# Altium footprint library RL78 DEMOPCB_V1.02.PcbLib: 34 footprints (part 2 of 3)
Each footprint in its own frame and in the unit in brackets; x right, y up, seen from the top. Pads: shape width x height; smd on the part's side, far side on the other; paste and mask are expansions set on the pad; w line width, h text height; cw(c..) or ccw(c..) is an arc to the next point about the centre after c.
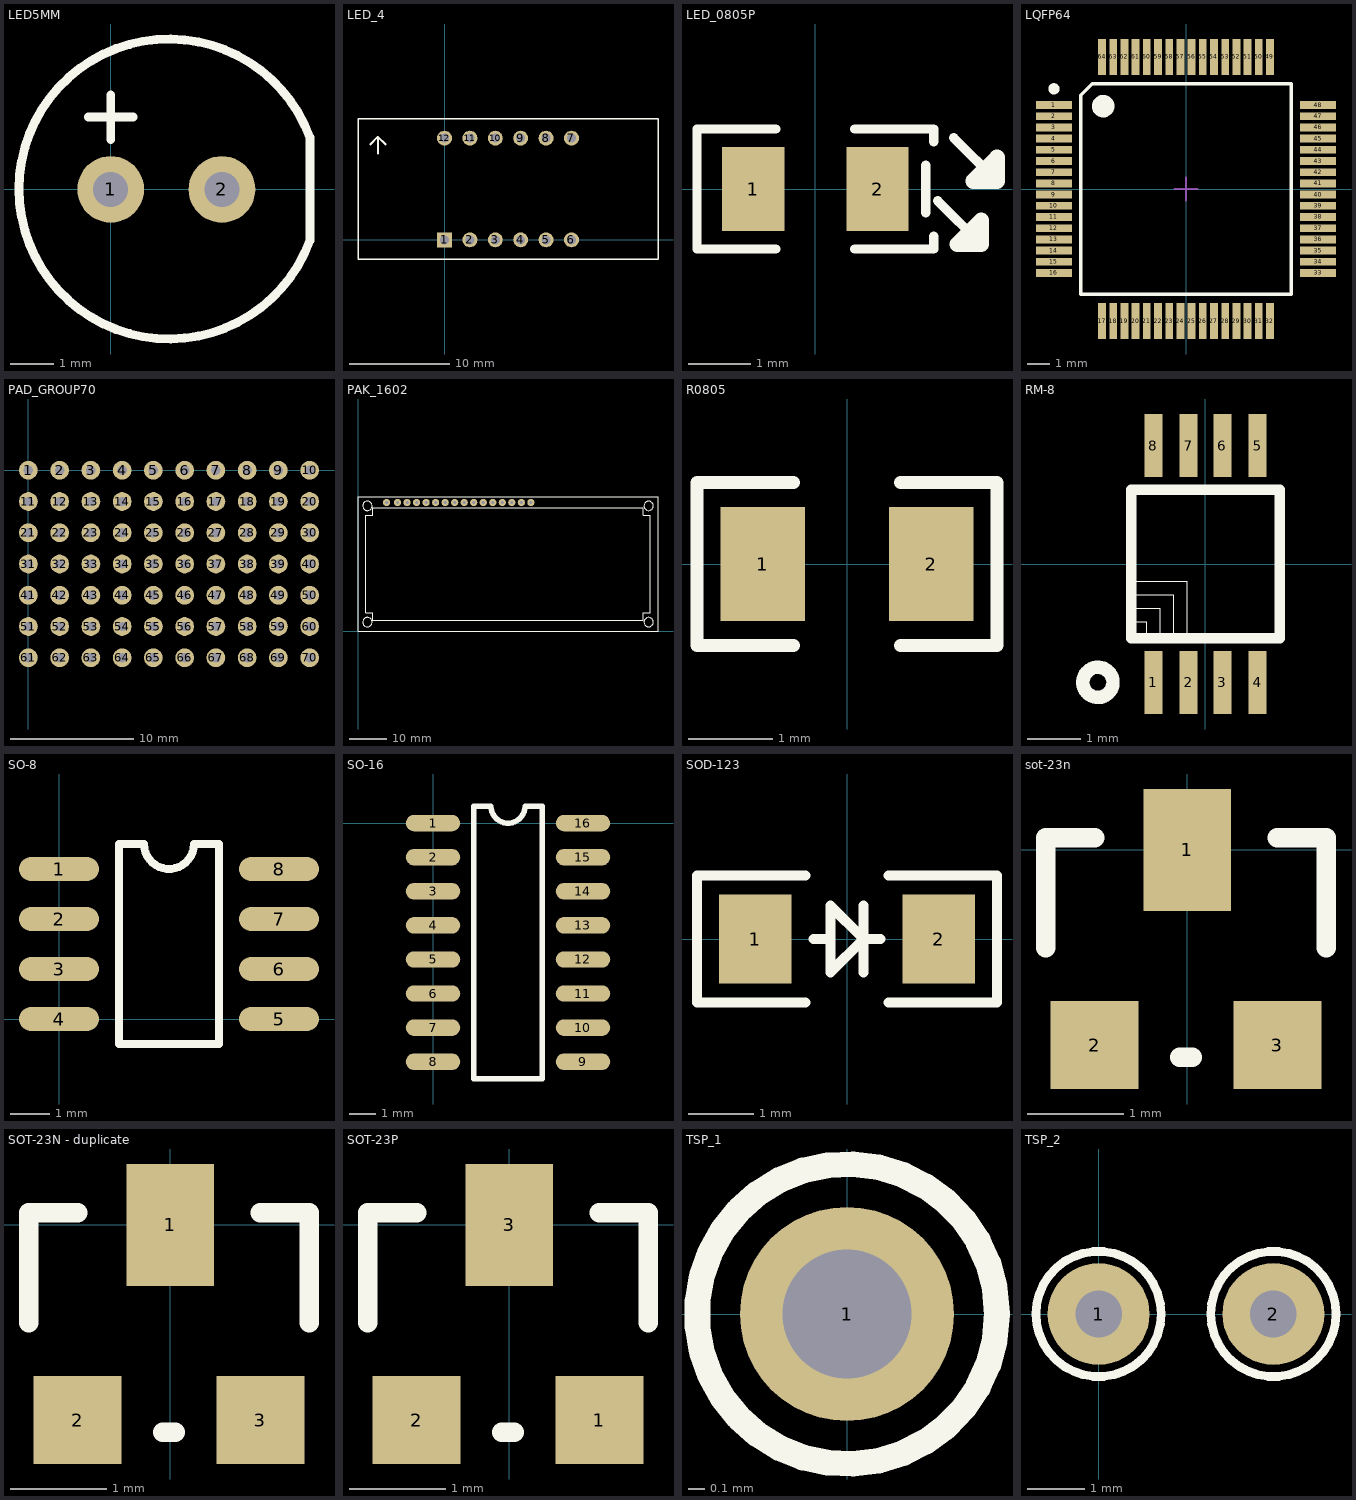
[diagram p1: the footprints below, top view; thin cyan lines are the x and y axes]

## LED5MM [mil]
pads (2):
  round 60 hole 31.5: 1(0,0) 2(100,0)
Top Overlay:
  lines w8: -20,65 20,65 ; 0,45 0,85 ; 179.16,-45.77 cw(c52.41,0.36) 179.16,46.5 179.16,-45.77

## LED_4 [mm]
pads (12):
  rect 1.5x1.5 hole 0.9: 1(0,0)
  round 1.5 hole 0.9: 2(2.54,0) 3(5.08,0) 4(7.62,0) 5(10.16,0) 6(12.7,0) 7(12.7,10.16) 8(10.16,10.16) 9(7.62,10.16) 10(5.08,10.16) 11(2.54,10.16) 12(0,10.16)
Top Overlay:
  lines w0.127: -8.65,-1.92 -8.65,12.08 21.35,12.08 21.35,-1.92 -8.65,-1.92
  lines w0.203: -7.42,9.527 -6.658,10.289 ; -6.658,8.638 -6.658,10.289 ; -5.896,9.527 -6.658,10.289

## LED_0805P [mm] "Chip Resistor; Body 2.0 x 1.3 mm (LxW typ)"
height 0.65
pads (2):
  rect 1x1.35 smd: 1(-1,0) 2(1,0)
Top Overlay:
  lines w0.152: -1.905,-0.965 -0.635,-0.965 ; -1.905,-0.94 -1.905,0.965 -0.635,0.965 ; 0.635,-0.965 1.905,-0.965 1.905,-0.762 ; 0.635,0.965 1.905,0.965 1.905,0.762 ; 1.778,-0.381 1.778,0.381 ; 1.968,-0.191 2.667,-0.889 ; 2.222,0.826 2.921,0.127
  lines w0.254: 2.286,-0.889 2.667,-0.508 2.667,-0.889 2.286,-0.889 ; 2.54,0.127 2.921,0.127 2.921,0.508 2.54,0.127

## LQFP64 [mm] "SQFP, 64-Leads, Body 12.6x12.6mm (max), Pitch 0.50mm, IPC Medium Density"
height 2.45
pads (64):
  rect 1.6x0.35 smd: 1(-5.9,3.75) 2(-5.9,3.25) 3(-5.9,2.75) 4(-5.9,2.25) 5(-5.9,1.75) 6(-5.9,1.25) 7(-5.9,0.75) 8(-5.9,0.25) 9(-5.9,-0.25) 10(-5.9,-0.75) 11(-5.9,-1.25) 12(-5.9,-1.75) 13(-5.9,-2.25) 14(-5.9,-2.75) 15(-5.9,-3.25) 16(-5.9,-3.75) 33(5.9,-3.75) 34(5.9,-3.25) 35(5.9,-2.75) 36(5.9,-2.25) 37(5.9,-1.75) 38(5.9,-1.25) 39(5.9,-0.75) 40(5.9,-0.25) 41(5.9,0.25) 42(5.9,0.75) 43(5.9,1.25) 44(5.9,1.75) 45(5.9,2.25) 46(5.9,2.75) 47(5.9,3.25) 48(5.9,3.75)
  rect 0.35x1.6 smd: 17(-3.75,-5.9) 18(-3.25,-5.9) 19(-2.75,-5.9) 20(-2.25,-5.9) 21(-1.75,-5.9) 22(-1.25,-5.9) 23(-0.75,-5.9) 24(-0.25,-5.9) 25(0.25,-5.9) 26(0.75,-5.9) 27(1.25,-5.9) 28(1.75,-5.9) 29(2.25,-5.9) 30(2.75,-5.9) 31(3.25,-5.9) 32(3.75,-5.9) 49(3.75,5.9) 50(3.25,5.9) 51(2.75,5.9) 52(2.25,5.9) 53(1.75,5.9) 54(1.25,5.9) 55(0.75,5.9) 56(0.25,5.9) 57(-0.25,5.9) 58(-0.75,5.9) 59(-1.25,5.9) 60(-1.75,5.9) 61(-2.25,5.9) 62(-2.75,5.9) 63(-3.25,5.9) 64(-3.75,5.9)
Top Overlay:
  circle w0.25: c-5.9,4.475 r0.125
  circle w0.6: c-3.7,3.7 r0.2
  lines w0.15: -4.7,-4.7 -4.7,4.19 -4.19,4.7 4.7,4.7 4.7,-4.7 -4.7,-4.7
Mechanical 15:
  lines w0.1: -0.5,0 0.5,0 ; 0,-0.5 0,0.5

## PAD_GROUP70 [mil]
pads (70):
  round 60 hole 30: 1(0,0) 2(100,0) 3(200,0) 4(300,0) 5(400,0) 6(500,0) 7(600,0) 8(700,0) 9(800,0) 10(900,0) 11(0,-100) 12(100,-100) 13(200,-100) 14(300,-100) 15(400,-100) 16(500,-100) 17(600,-100) 18(700,-100) 19(800,-100) 20(900,-100) 21(0,-200) 22(100,-200) 23(200,-200) 24(300,-200) 25(400,-200) 26(500,-200) 27(600,-200) 28(700,-200) 29(800,-200) 30(900,-200) 31(0,-300) 32(100,-300) 33(200,-300) 34(300,-300) 35(400,-300) 36(500,-300) 37(600,-300) 38(700,-300) 39(800,-300) 40(900,-300) 41(0,-400) 42(100,-400) 43(200,-400) 44(300,-400) 45(400,-400) 46(500,-400) 47(600,-400) 48(700,-400) 49(800,-400) 50(900,-400) 51(0,-500) 52(100,-500) 53(200,-500) 54(300,-500) 55(400,-500) 56(500,-500) 57(600,-500) 58(700,-500) 59(800,-500) 60(900,-500) 61(0,-600) 62(100,-600) 63(200,-600) 64(300,-600) 65(400,-600) 66(500,-600) 67(600,-600) 68(700,-600) 69(800,-600) 70(900,-600)

## PAK_1602 [mil]
pads (16):
  round 76 / inner round 60 / far side round 60 hole 36: 1(300,1354.33) 2(414.96,1354.33) 3(514.96,1354.33) 4(614.96,1354.33) 5(714.96,1354.33) 6(814.96,1354.33) 7(914.96,1354.33) 8(1014.96,1354.33) 9(1114.96,1354.33) 10(1214.96,1354.33) 11(1314.96,1354.33) 12(1414.96,1354.33) 13(1514.96,1354.33) 14(1614.96,1354.33) 15(1714.96,1354.33) 16(1814.96,1354.33)
Top Overlay:
  circle w10: c98.43,98.43 r49.21
  circle w10: c98.43,1318.9 r49.21
  circle w10: c3051.18,98.43 r49.21
  circle w10: c3051.18,1318.9 r49.21
  lines w6: 0,0 3149.61,0 3149.61,1417.32 0,1417.32 0,0 ; 78.74,196.85 78.74,1220.47 157.48,1220.47 157.48,1299.21 2992.13,1299.21 2992.13,1220.47 3070.87,1220.47 3070.87,196.85 2992.13,196.85 2992.13,118.11 157.48,118.11 157.48,196.85 78.74,196.85

## R0805 [mm] "Chip Resistor; Body 2.0 x 1.3 mm (LxW typ)"
height 0.65
pads (2):
  rect 1x1.35 smd: 1(-1,0) 2(1,0)
Top Overlay:
  lines w0.152: -0.635,-0.965 -1.778,-0.965 -1.778,0.965 -0.635,0.965 ; 0.635,-0.965 1.778,-0.965 1.778,0.965 0.635,0.965

## RM-8 [mil]
pads (8):
  rect 13.4x46.9 smd: 1(-38.6,-87.8) 2(-12.6,-87.8) 3(12.6,-87.8) 4(38.6,-87.8) 5(38.6,87.8) 6(12.6,87.8) 7(-12.6,87.8) 8(-38.6,87.8)
Top Overlay:
  circle w10: c-79.78,-87.8 r11.18
  lines w0.4: -55.1,-42.8 -43.6,-42.8 -43.6,-55.1 ; -55.1,-32.8 -33.6,-32.8 -33.6,-55.1 ; -55.1,-22.8 -23.6,-22.8 -23.6,-55.1 ; -55.1,-12.8 -13.6,-12.8 -13.6,-55.1
  lines w8: -55.1,-55.1 55.1,-55.1 55.1,55.1 -55.1,55.1 -55.1,-55.1

## SO-8 [mil]
pads (8):
  oval 80x24 smd: 1(0,150) 2(0,100) 3(0,50) 4(0,0) 5(220,0) 6(220,50) 7(220,100) 8(220,150)
Top Overlay:
  lines w8: 60,-25 60,175 85,175 ccw(c110,175) 135,175 160,175 160,-25 60,-25

## SO-16 [mil]
pads (16):
  oval 80x24 smd: 1(0,0) 2(0,-50) 3(0,-100) 4(0,-150) 5(0,-200) 6(0,-250) 7(0,-300) 8(0,-350) 9(220,-350) 10(220,-300) 11(220,-250) 12(220,-200) 13(220,-150) 14(220,-100) 15(220,-50) 16(220,0)
Top Overlay:
  lines w8: 60,-375 60,25 85,25 ccw(c110,25) 135,25 160,25 160,-375 60,-375

## SOD-123 [mm] "Chip Resistor; Body 2.0 x 1.3 mm (LxW typ)"
height 0.65
pads (2):
  rect 1.1x1.35 smd: 1(-1.397,0) 2(1.397,0)
Top Overlay:
  lines w0.152: -0.635,-0.965 -2.286,-0.965 -2.286,0.965 -0.635,0.965 ; -0.508,0 -0.254,0 ; 0.254,-0.508 0.254,0.508 ; 0.508,0 0.254,0 ; 0.635,-0.965 2.286,-0.965 2.286,0.965 0.635,0.965 ; 0.254,0 -0.254,0.508 -0.254,-0.508 0.254,0

## sot-23n [mil]
pads (3):
  rect 36x50 smd: 1(0,0)
  rect 36x36 smd: 2(-38,-80) 3(37,-80)
Top Overlay:
  lines w8: -58,-40 -58,5 -38,5 ; -3,-85 2,-85 ; 37,5 57,5 57,-40

## SOT-23N - duplicate [mil]
pads (3):
  rect 36x50 smd: 1(0,0)
  rect 36x36 smd: 2(-38,-80) 3(37,-80)
Top Overlay:
  lines w8: -58,-40 -58,5 -38,5 ; -3,-85 2,-85 ; 37,5 57,5 57,-40

## SOT-23P [mil]
pads (3):
  rect 36x36 smd: 1(37,-80) 2(-38,-80)
  rect 36x50 smd: 3(0,0)
Top Overlay:
  lines w8: -58,-40 -58,5 -38,5 ; -3,-85 2,-85 ; 37,5 57,5 57,-40

## TSP_1 [mil]
pads (1):
  round 50 hole 30: 1(0,0)
Top Overlay:
  circle w6: c0,0 r35

## TSP_2 [mil]
pads (2):
  round 70 hole 32: 1(0,0) 2(120,0)
Top Overlay:
  circle w6: c0,0 r43
  circle w6: c120,0 r43